# Altium footprint library Footprint.PcbLib: 17 footprints (part 1 of 2)
Each footprint in its own frame and in the unit in brackets; x right, y up, seen from the top. Pads: shape width x height; smd on the part's side, far side on the other; paste and mask are expansions set on the pad; w line width, h text height; cw(c..) or ccw(c..) is an arc to the next point about the centre after c.
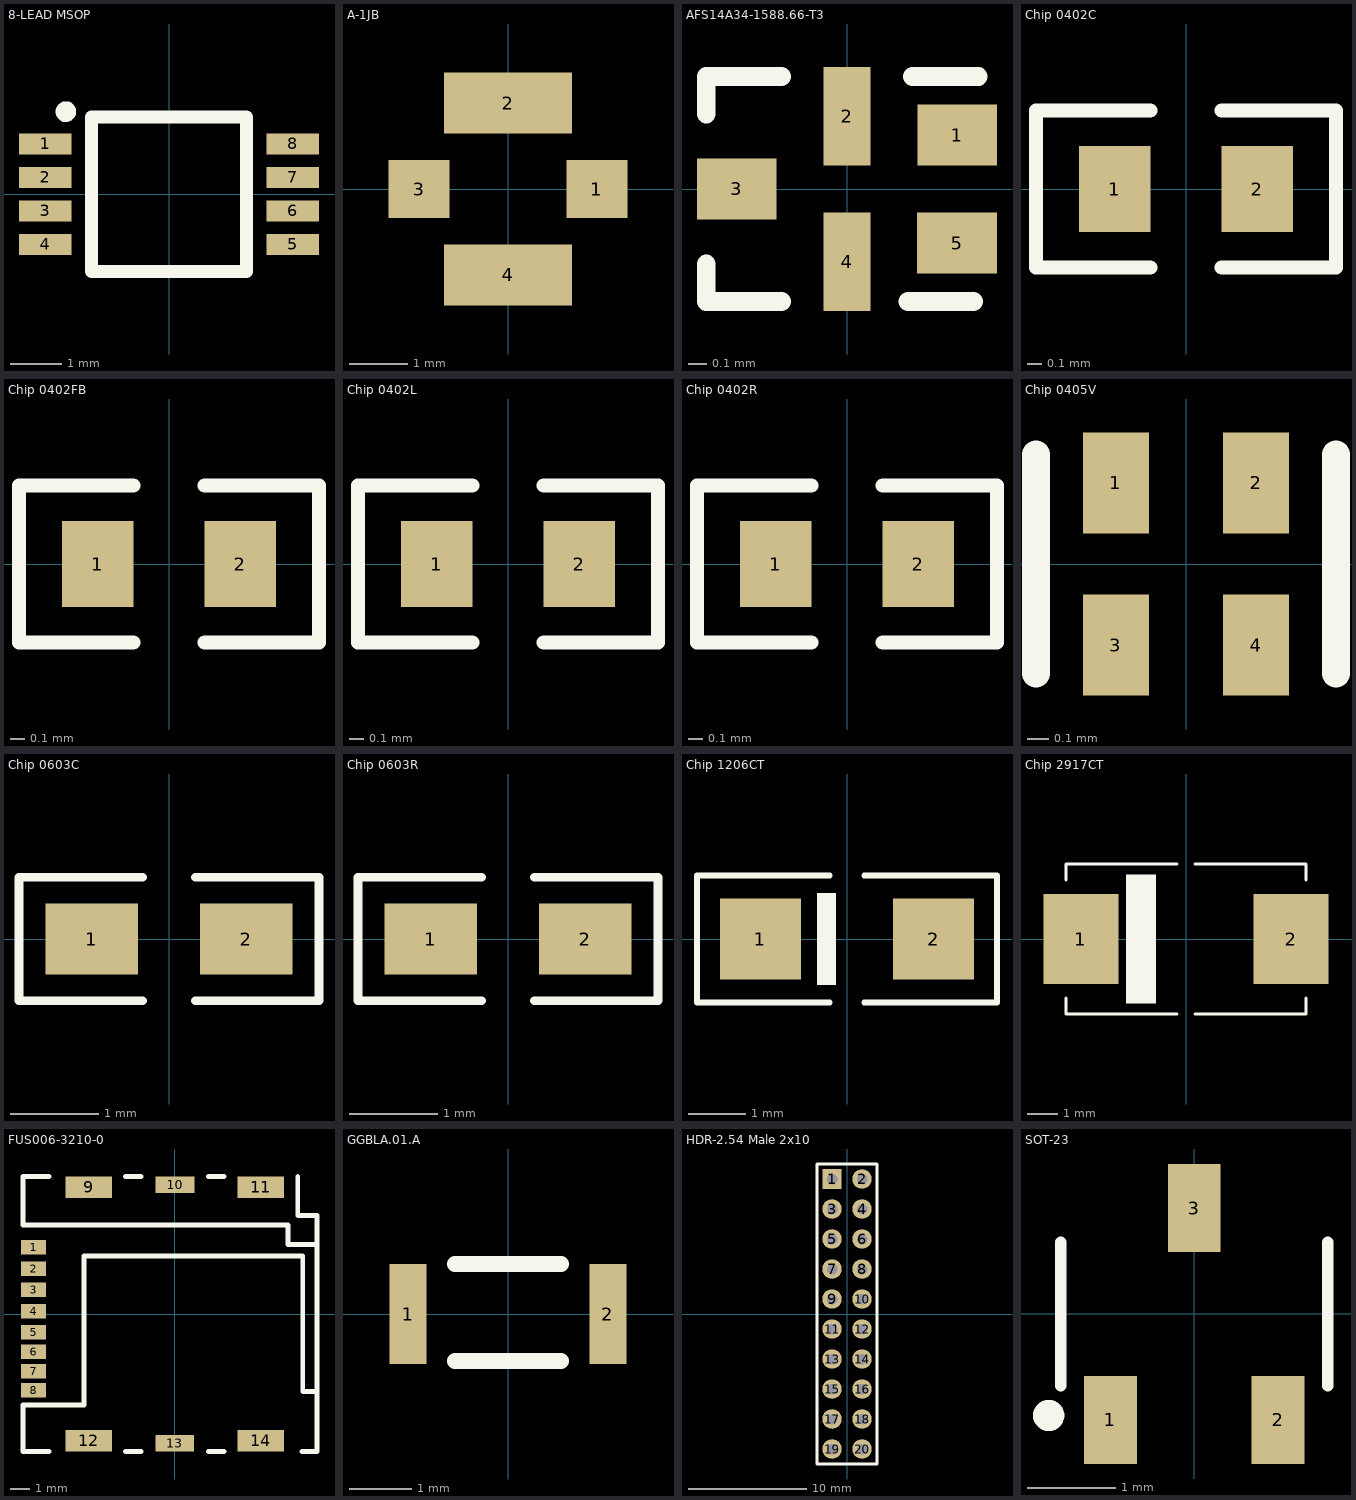
[diagram p0: the footprints below, top view; thin cyan lines are the x and y axes]

## 8-LEAD MSOP [mm]
pads (8):
  rect 1.02x0.41 smd: 1(-2.4,0.975) 2(-2.4,0.325) 3(-2.4,-0.325) 4(-2.4,-0.975) 5(2.4,-0.975) 6(2.4,-0.325) 7(2.4,0.325) 8(2.4,0.975)
Top Overlay:
  circle w0.2: c-2,1.6 r0.1
  lines w0.254: -1.5,-1.5 -1.5,1.5 1.5,1.5 1.5,-1.5 -1.5,-1.5
3D body: height 0.1, standoff 0, extent 1.85,-1.175 2.4,-0.775
3D body: height 0.6, standoff 0, extent 1.75,-1.175 1.85,-0.775
3D body: height 0.6, standoff 0.5, extent 1.5,-1.175 1.75,-0.775
3D body: height 0.6, standoff 0.5, extent 1.5,-0.525 1.75,-0.125
3D body: height 0.6, standoff 0, extent 1.75,-0.525 1.85,-0.125
3D body: height 0.1, standoff 0, extent 1.85,-0.525 2.4,-0.125
3D body: height 0.6, standoff 0.5, extent 1.5,0.125 1.75,0.525
3D body: height 0.6, standoff 0, extent 1.75,0.125 1.85,0.525
3D body: height 0.1, standoff 0, extent 1.85,0.125 2.4,0.525
3D body: height 0.6, standoff 0.5, extent 1.5,0.775 1.75,1.175
3D body: height 0.6, standoff 0, extent 1.75,0.775 1.85,1.175
3D body: height 0.1, standoff 0, extent 1.85,0.775 2.4,1.175
3D body: height 0.1, standoff 0, extent -2.4,-1.175 -1.85,-0.775
3D body: height 0.6, standoff 0, extent -1.85,-1.175 -1.75,-0.775
3D body: height 0.6, standoff 0.5, extent -1.75,-1.175 -1.5,-0.775
3D body: height 0.1, standoff 0, extent -2.4,-0.525 -1.85,-0.125
3D body: height 0.6, standoff 0, extent -1.85,-0.525 -1.75,-0.125
3D body: height 0.6, standoff 0.5, extent -1.75,-0.525 -1.5,-0.125
3D body: height 0.1, standoff 0, extent -2.4,0.125 -1.85,0.525
3D body: height 0.6, standoff 0, extent -1.85,0.125 -1.75,0.525
3D body: height 0.6, standoff 0.5, extent -1.75,0.125 -1.5,0.525
3D body: height 0.6, standoff 0.5, extent -1.75,0.775 -1.5,1.175
3D body: height 0.6, standoff 0, extent -1.85,0.775 -1.75,1.175
3D body: height 0.1, standoff 0, extent -2.4,0.775 -1.85,1.175
3D body: height 1.1, standoff 0.1, extent -1.5,-1.5 1.5,1.5

## A-1JB [mm] "U.FL"
height 1.25
pads (4):
  rect 1.05x1 smd: 1(1.525,0) 3(-1.525,0)
  rect 2.2x1.05 smd: 2(0,1.475) 4(0,-1.475)
3D body: height 0.35, standoff 0, extent -1.3,-1.3 1.3,1.3
3D body: height 0.15, standoff 0, extent -0.9,-1.5 0.9,-1.3
3D body: height 0.15, standoff 0, extent -0.9,1.3 0.9,1.5
3D body: height 0.15, standoff 0, extent -1.55,-0.3 -1.3,0.3
3D body: height 0.15, standoff 0, extent 1.3,-0.3 1.55,0.3
3D body: height 1.3, standoff 0.35, extent -0.2,-0.2 0.2,0.2
3D body: height 1.25, standoff 0.35, extent -1,-1 1,1

## AFS14A34-1588.66-T3 [mm]
pads (5):
  rect 0.425x0.325 smd mask+0.08: 1(0.587,0.288) 3(-0.587,0) 5(0.587,-0.288)
  rect 0.25x0.525 smd mask+0.08: 2(0,0.388) 4(0,-0.387)
Top Overlay:
  lines w0.1: -0.75,-0.4 -0.75,-0.6 -0.35,-0.6 ; -0.75,0.4 -0.75,0.6 -0.35,0.6 ; 0.325,-0.6 0.675,-0.6 ; 0.35,0.6 0.7,0.6
3D body: height 0.7, standoff 0, extent -0.7,-0.55 0.7,0.55

## Chip 0402C [mm]
pads (2):
  rect 0.5x0.6 smd: 1(-0.5,0) 2(0.5,0)
Top Overlay:
  lines w0.1: -0.25,-0.55 -1.05,-0.55 -1.05,0.55 -0.25,0.55 ; 0.25,-0.55 1.05,-0.55 1.05,0.55 0.25,0.55
3D body: height 0.55, standoff 0, extent 0.3,-0.25 0.5,0.25
3D body: height 0.55, standoff 0, extent -0.5,-0.25 -0.3,0.25
3D body: height 0.54, standoff 0.01, extent -0.3,-0.25 0.3,0.25

## Chip 0402FB [mm]
pads (2):
  rect 0.5x0.6 smd: 1(-0.5,0) 2(0.5,0)
Top Overlay:
  lines w0.1: -0.25,-0.55 -1.05,-0.55 -1.05,0.55 -0.25,0.55 ; 0.25,-0.55 1.05,-0.55 1.05,0.55 0.25,0.55
3D body: height 0.55, standoff 0, extent 0.3,-0.25 0.5,0.25
3D body: height 0.55, standoff 0, extent -0.5,-0.25 -0.3,0.25
3D body: height 0.54, standoff 0.01, extent -0.3,-0.25 0.3,0.25

## Chip 0402L [mm]
pads (2):
  rect 0.5x0.6 smd: 1(-0.5,0) 2(0.5,0)
Top Overlay:
  lines w0.1: -0.25,-0.55 -1.05,-0.55 -1.05,0.55 -0.25,0.55 ; 0.25,-0.55 1.05,-0.55 1.05,0.55 0.25,0.55
3D body: height 0.54, standoff 0.01, extent -0.3,-0.25 0.3,0.25
3D body: height 0.55, standoff 0, extent -0.5,-0.25 -0.3,0.25
3D body: height 0.55, standoff 0, extent 0.3,-0.25 0.5,0.25

## Chip 0402R [mm]
pads (2):
  rect 0.5x0.6 smd: 1(-0.5,0) 2(0.5,0)
Top Overlay:
  lines w0.1: -0.25,-0.55 -1.05,-0.55 -1.05,0.55 -0.25,0.55 ; 0.25,-0.55 1.05,-0.55 1.05,0.55 0.25,0.55
3D body: height 0.3, standoff 0, extent 0.25,-0.25 0.5,0.25
3D body: height 0.3, standoff 0, extent -0.5,-0.25 -0.25,0.25
3D body: height 0.35, standoff 0.3, extent -0.3,-0.25 0.3,0.25
3D body: height 0.3, standoff 0.05, extent -0.25,-0.25 0.25,0.25

## Chip 0405V [mm]
pads (4):
  rect 0.3x0.46 smd: 1(-0.32,0.37) 2(0.32,0.37) 3(-0.32,-0.37) 4(0.32,-0.37)
Top Overlay:
  lines w0.127: -0.685,-0.5 -0.685,0.5 ; 0.685,-0.5 0.685,0.5
3D body: height 0.66, standoff 0, extent 0.14,-0.5 0.5,-0.3
3D body: height 0.66, standoff 0, extent -0.5,-0.5 -0.14,-0.3
3D body: height 0.66, standoff 0, extent 0.14,0.3 0.5,0.5
3D body: height 0.66, standoff 0, extent -0.5,0.3 -0.14,0.5
3D body: height 0.66, standoff 0, extent -0.685,-0.5 0.685,0.5

## Chip 0603C [mm]
pads (2):
  rect 1.05x0.8 smd: 1(-0.875,0) 2(0.875,0)
Top Overlay:
  lines w0.1: -0.3,-0.7 -1.7,-0.7 -1.7,0.7 -0.3,0.7 ; 0.3,-0.7 1.7,-0.7 1.7,0.7 0.3,0.7
3D body: height 0.88, standoff 0.02, extent -0.45,-0.4 0.45,0.4
3D body: height 0.9, standoff 0, extent -0.8,-0.4 -0.45,0.4
3D body: height 0.9, standoff 0, extent 0.45,-0.4 0.8,0.4

## Chip 0603R [mm]
pads (2):
  rect 1.05x0.8 smd: 1(-0.875,0) 2(0.875,0)
Top Overlay:
  lines w0.1: -0.3,-0.7 -1.7,-0.7 -1.7,0.7 -0.3,0.7 ; 0.3,-0.7 1.7,-0.7 1.7,0.7 0.3,0.7
3D body: height 0.4, standoff 0.05, extent -0.5,-0.4 0.5,0.4
3D body: height 0.4, standoff 0, extent -0.8,-0.4 -0.5,0.4
3D body: height 0.4, standoff 0, extent 0.5,-0.4 0.8,0.4
3D body: height 0.45, standoff 0.4, extent -0.5,-0.4 0.5,0.4

## Chip 1206CT [mm]
pads (2):
  rect 1.4x1.4 smd: 1(-1.5,0) 2(1.5,0)
Top Overlay:
  rectangle: -0.52,-0.8 -0.19,0.8
  lines w0.1: -0.3,-1.1 -2.6,-1.1 -2.6,1.1 -0.3,1.1 ; 0.3,-1.1 2.6,-1.1 2.6,1.1 0.3,1.1
3D body: height 1.6, standoff 0, extent -0.55,-0.8 0.55,0.8
3D body: height 1.6, standoff 0.2, extent 0.55,-0.8 1.4,0.8
3D body: height 0.9, standoff 0.8, extent 1.4,-0.6 1.6,-0.3
3D body: height 0.9, standoff 0.8, extent 1.4,0.3 1.6,0.6
3D body: height 0.1, standoff 0, extent 0.8,-0.6 1.6,0.6
3D body: height 0.8, standoff 0.1, extent 1.5,-0.6 1.6,0.6
3D body: height 0.8, standoff 0.1, extent -1.6,-0.6 -1.5,0.6
3D body: height 0.1, standoff 0, extent -1.6,-0.6 -0.8,0.6
3D body: height 0.9, standoff 0.8, extent -1.6,-0.6 -1.4,-0.3
3D body: height 0.9, standoff 0.8, extent -1.6,0.3 -1.4,0.6
3D body: height 1.6, standoff 0.2, extent -1.2,-0.8 -0.55,0.8
3D body: height 1.6, standoff 1.5, extent -1.4,-0.8 -1.2,0.8
3D body: height 1.5, standoff 0.2, extent -1.4,-0.8 -1.2,0.8

## Chip 2917CT [mm]
pads (2):
  rect 2.5x3 smd: 1(-3.5,0) 2(3.5,0)
Top Overlay:
  rectangle: -2,-2.15 -1,2.15
  lines w0.1: -4,-1.968 -4,-2.5 -0.3,-2.5 ; -4,1.969 -4,2.5 -0.3,2.5 ; 0.3,-2.5 4,-2.5 4,-1.968 ; 0.3,2.5 4,2.5 4,1.969
3D body: height 2.89, standoff 0.2, extent -3.45,-2.15 -2.85,2.15
3D body: height 2.9, standoff 2.89, extent -3.45,-2.15 -2.85,2.15
3D body: height 2.9, standoff 0.2, extent -2.85,-2.15 -2.2,2.15
3D body: height 1.45, standoff 1.35, extent -3.65,0.65 -3.45,1.2
3D body: height 1.45, standoff 1.35, extent -3.65,-1.2 -3.45,-0.65
3D body: height 0.1, standoff 0, extent -3.65,-1.2 -2.35,1.2
3D body: height 1.35, standoff 0.1, extent -3.65,-1.2 -3.55,1.2
3D body: height 1.35, standoff 0.1, extent 3.55,-1.2 3.65,1.2
3D body: height 0.1, standoff 0, extent 2.35,-1.2 3.65,1.2
3D body: height 1.45, standoff 1.35, extent 3.45,0.65 3.65,1.2
3D body: height 1.45, standoff 1.35, extent 3.45,-1.2 3.65,-0.65
3D body: height 2.9, standoff 0.2, extent 2.2,-2.15 3.45,2.15
3D body: height 2.9, standoff 0, extent -2.2,-2.15 2.2,2.15

## FUS006-3210-0 [mm] "Nano SIM Card Connector"
pads (14):
  rect 1.3x0.75 smd: 1(-7.3,3.45) 2(-7.3,2.35) 3(-7.3,1.25) 4(-7.3,0.15) 5(-7.3,-0.95) 6(-7.3,-1.95) 7(-7.3,-2.95) 8(-7.3,-3.95)
  rect 2.4x1.1 smd: 9(-4.45,6.55) 11(4.45,6.55) 12(-4.45,-6.55) 14(4.45,-6.55)
  rect 2x0.85 smd: 10(0.01,6.675) 13(0,-6.675)
Top Overlay:
  lines w0.254: -6.5,-7.1 -7.85,-7.1 -7.85,-4.7 -4.7,-4.7 -4.7,3 6.61,3 6.61,-4 7.35,-4 ; -6.5,7.1 -7.85,7.1 -7.85,4.6 5.85,4.6 5.85,3.6 7.35,3.6 ; -2.54,-7.1 -1.75,-7.1 ; -2.54,7.1 -1.75,7.1 ; 1.75,-7.1 2.54,-7.1 ; 1.75,7.1 2.54,7.1 ; 6.35,7.1 6.35,5.08 7.35,5.08 7.35,-7.1 6.56,-7.1
3D body: height 1.25, standoff 0.1, extent -7.35,-6.4 -7.15,6.4
3D body: height 1.25, standoff 0.1, extent -7.35,6.4 7.35,6.6
3D body: height 1.25, standoff 0.1, extent -7.35,-6.6 7.35,-6.4
3D body: height 1.35, standoff 1.25, extent -7.35,-6.6 7.35,6.6
3D body: height 0.1, standoff 0, extent -7.35,-6.6 7.35,6.6

## GGBLA.01.A [mm]
pads (2):
  rect 0.6x1.6 smd: 1(-1.6,0) 2(1.6,0)
Top Overlay:
  lines w0.254: -0.85,-0.75 0.85,-0.75 ; -0.85,0.8 0.85,0.8
3D body: height 0.5, standoff 0, extent -1.6,-0.8 1.6,0.8

## HDR-2.54 Male 2x10 [mil]
pads (20):
  rect 65x65 hole 35: 1(-50,450)
  round 65 hole 35: 2(50,450) 3(-50,350) 4(50,350) 5(-50,250) 6(50,250) 7(-50,150) 8(50,150) 9(-50,50) 10(50,50) 11(-50,-50) 12(50,-50) 13(-50,-150) 14(50,-150) 15(-50,-250) 16(50,-250) 17(-50,-350) 18(50,-350) 19(-50,-450) 20(50,-450)
Top Overlay:
  lines w10: -100,-500 -100,0 -100,500 100,500 100,0 100,-500 -100,-500
3D body: height 19.68, standoff 0, extent -100,-100 -78.74,0
3D body: height 19.68, standoff 0, extent 78.74,-100 100,0
3D body: height 98.43, standoff 19.68, extent -100,-100 100,-50
3D body: height 98.43, standoff 19.68, extent -100,-50 100,0
3D body: height 336.22, standoff -118.11, extent 37.4,-62.6 62.6,-37.4
3D body: height 336.22, standoff -118.11, extent -62.6,-62.6 -37.4,-37.4
3D body: height 19.68, standoff 0, extent -100,-200 -78.74,-100
3D body: height 19.68, standoff 0, extent 78.74,-200 100,-100
3D body: height 98.43, standoff 19.68, extent -100,-200 100,-150
3D body: height 98.43, standoff 19.68, extent -100,-150 100,-100
3D body: height 336.22, standoff -118.11, extent 37.4,-162.6 62.6,-137.4
3D body: height 336.22, standoff -118.11, extent -62.6,-162.6 -37.4,-137.4
3D body: height 19.68, standoff 0, extent -100,-300 -78.74,-200
3D body: height 19.68, standoff 0, extent 78.74,-300 100,-200
3D body: height 98.43, standoff 19.68, extent -100,-300 100,-250
3D body: height 98.43, standoff 19.68, extent -100,-250 100,-200
3D body: height 336.22, standoff -118.11, extent 37.4,-262.6 62.6,-237.4
3D body: height 336.22, standoff -118.11, extent -62.6,-262.6 -37.4,-237.4
3D body: height 19.68, standoff 0, extent -100,-400 -78.74,-300
3D body: height 19.68, standoff 0, extent 78.74,-400 100,-300
3D body: height 98.43, standoff 19.68, extent -100,-400 100,-350
3D body: height 98.43, standoff 19.68, extent -100,-350 100,-300
3D body: height 336.22, standoff -118.11, extent 37.4,-362.6 62.6,-337.4
3D body: height 336.22, standoff -118.11, extent -62.6,-362.6 -37.4,-337.4
3D body: height 19.68, standoff 0, extent -100,-500 -78.74,-400
3D body: height 19.68, standoff 0, extent 78.74,-500 100,-400
3D body: height 98.43, standoff 19.68, extent -100,-500 100,-450
3D body: height 98.43, standoff 19.68, extent -100,-450 100,-400
3D body: height 336.22, standoff -118.11, extent 37.4,-462.6 62.6,-437.4
3D body: height 336.22, standoff -118.11, extent -62.6,-462.6 -37.4,-437.4
3D body: height 336.22, standoff -118.11, extent -62.6,37.4 -37.4,62.6
3D body: height 336.22, standoff -118.11, extent 37.4,37.4 62.6,62.6
3D body: height 98.43, standoff 19.68, extent -100,50 100,100
3D body: height 98.43, standoff 19.68, extent -100,0 100,50
3D body: height 19.68, standoff 0, extent 78.74,0 100,100
3D body: height 19.68, standoff 0, extent -100,0 -78.74,100
3D body: height 336.22, standoff -118.11, extent -62.6,137.4 -37.4,162.6
3D body: height 336.22, standoff -118.11, extent 37.4,137.4 62.6,162.6
3D body: height 98.43, standoff 19.68, extent -100,150 100,200
3D body: height 98.43, standoff 19.68, extent -100,100 100,150
3D body: height 19.68, standoff 0, extent 78.74,100 100,200
3D body: height 19.68, standoff 0, extent -100,100 -78.74,200
3D body: height 336.22, standoff -118.11, extent -62.6,237.4 -37.4,262.6
3D body: height 336.22, standoff -118.11, extent 37.4,237.4 62.6,262.6
3D body: height 98.43, standoff 19.68, extent -100,250 100,300
3D body: height 98.43, standoff 19.68, extent -100,200 100,250
3D body: height 19.68, standoff 0, extent 78.74,200 100,300
3D body: height 19.68, standoff 0, extent -100,200 -78.74,300
3D body: height 336.22, standoff -118.11, extent -62.6,337.4 -37.4,362.6
3D body: height 336.22, standoff -118.11, extent 37.4,337.4 62.6,362.6
3D body: height 98.43, standoff 19.68, extent -100,350 100,400
3D body: height 98.43, standoff 19.68, extent -100,300 100,350
3D body: height 19.68, standoff 0, extent 78.74,300 100,400
3D body: height 19.68, standoff 0, extent -100,300 -78.74,400
3D body: height 336.22, standoff -118.11, extent -62.6,437.4 -37.4,462.6
3D body: height 336.22, standoff -118.11, extent 37.4,437.4 62.6,462.6
3D body: height 98.43, standoff 19.68, extent -100,450 100,500
3D body: height 98.43, standoff 19.68, extent -100,400 100,450
3D body: height 19.68, standoff 0, extent 78.74,400 100,500
3D body: height 19.68, standoff 0, extent -100,400 -78.74,500

## SOT-23 [mm]
pads (3):
  rect 0.6x1 smd: 1(-0.95,-1.2) 2(0.95,-1.2) 3(0,1.2)
Top Overlay:
  circle w0.254: c-1.65,-1.15 r0.05
  lines w0.127: -1.512,-0.813 -1.512,0.813 ; 1.512,-0.813 1.512,0.813